# Altium footprint library WR-TBL_Rising Cage Clamp_7.50mm.PcbLib: 17 footprints (part 1 of 2)
Each footprint in its own frame and in the unit in brackets; x right, y up, seen from the top. Pads: shape width x height; smd on the part's side, far side on the other; paste and mask are expansions set on the pad; w line width, h text height; cw(c..) or ccw(c..) is an arc to the next point about the centre after c.
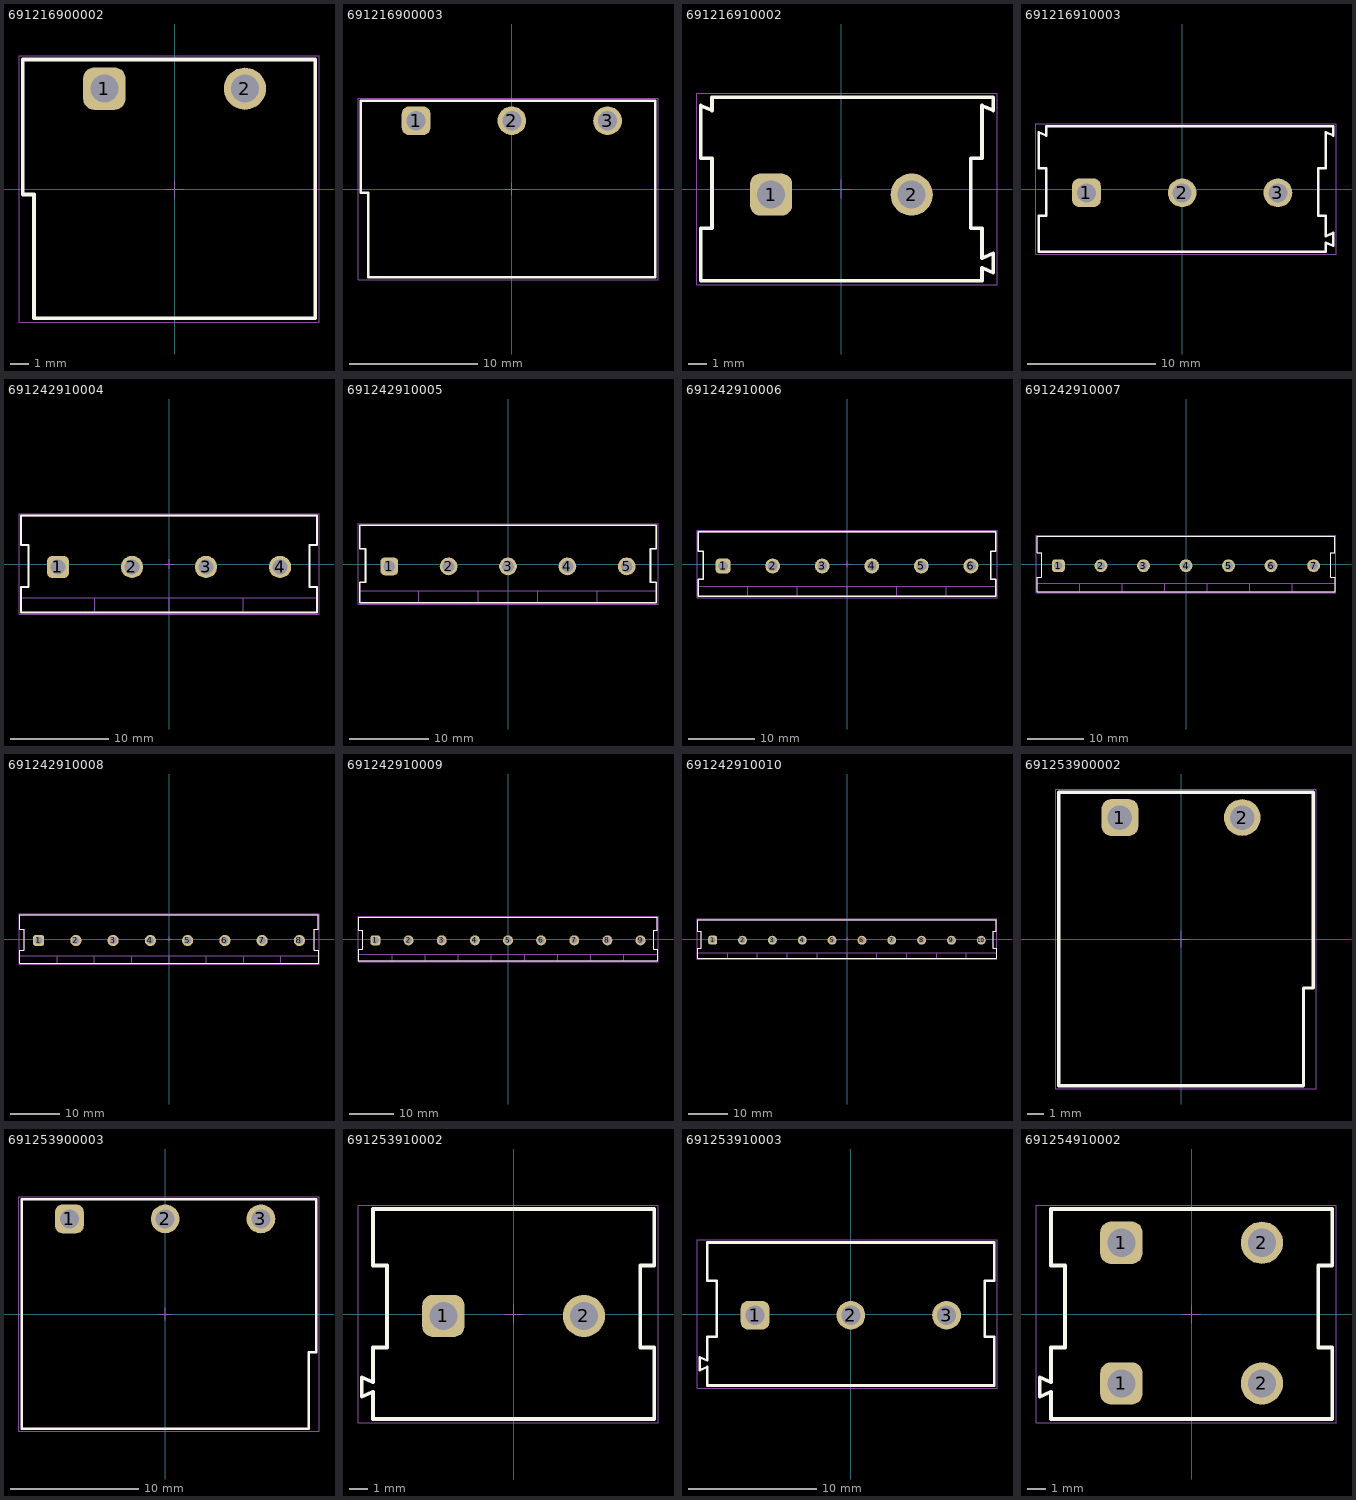
[diagram p0: the footprints below, top view; thin cyan lines are the x and y axes]

## 691216900002 [mm] "Vertical Cable Entry with Rising Cage Clamp, pitch 7.5mm, 02p"
height 9.8
pads (2):
  rrect50% 2.25x2.25 hole 1.5: 1(-3.75,5.35)
  round 2.25 hole 1.5: 2(3.75,5.35)
Top Overlay:
  lines w0.2: -8.1,-0.3 -7.5,-0.3 -7.5,-6.9 7.5,-6.9 7.5,6.9 -8.1,6.9 -8.1,-0.3
Top Designator:
  text ".Designator" at -7.498,-0.5 h1.5
Top Component Outline:
  lines w0.1: -8.1,-0.3 -8.1,6.9 7.5,6.9 7.5,-6.9 -7.5,-6.9 -7.5,-0.3 -8.1,-0.3
Top 3D Body:
  lines w0.1: -8.1,-0.3 -7.5,-0.3 -7.5,-6.9 7.5,-6.9 7.5,6.9 -8.1,6.9 -8.1,-0.3
Top Courtyard:
  lines w0.05: -8.3,-7.1 -8.3,7.1 7.7,7.1 7.7,-7.1 -8.3,-7.1
Top Component Center:
  lines w0.05: -0.5,0 0.5,0 ; 0,-0.5 0,0.5
3D body "691216900002.stp": height 9.9, standoff -3.4, extent -8.1,-6.9 7.5,6.9

## 691216900003 [mm] "Vertical Cable Entry with Rising Cage Clamp, pitch 7.5mm, 03p"
height 9.8
pads (3):
  rrect50% 2.25x2.25 hole 1.5: 1(-7.5,5.35)
  round 2.25 hole 1.5: 2(0,5.35) 3(7.5,5.35)
Top Overlay:
  lines w0.2: -11.85,-0.3 -11.25,-0.3 -11.25,-6.9 11.25,-6.9 11.25,6.9 -11.85,6.9 -11.85,-0.3
Top Designator:
  text ".Designator" at -7.498,-0.5 h1.5
Top Component Outline:
  lines w0.1: -11.85,-0.3 -11.85,6.9 11.25,6.9 11.25,-6.9 -11.25,-6.9 -11.25,-0.3 -11.85,-0.3
Top 3D Body:
  lines w0.1: -11.85,-0.3 -11.25,-0.3 -11.25,-6.9 11.25,-6.9 11.25,6.9 -11.85,6.9 -11.85,-0.3
Top Courtyard:
  lines w0.05: -12.05,-7.1 -12.05,7.1 11.45,7.1 11.45,-7.1 -12.05,-7.1
Top Component Center:
  lines w0.05: -0.5,0 0.5,0 ; 0,-0.5 0,0.5
3D body "691216900003.stp": height 9.9, standoff -3.4, extent -11.85,-6.9 11.25,6.9

## 691216910002 [mm] "Serie 2169 - 7.50 mm _ 2 pins"
height 13.8
pads (2):
  rrect50% 2.25x2.25 hole 1.5: 1(-3.75,-0.3)
  round 2.25 hole 1.5: 2(3.75,-0.3)
Top Overlay:
  lines w0.2: -7.5,-4.9 7.5,-4.9 7.5,-4.2 8.1,-4.46 8.1,-3.43 7.5,-3.69 7.5,-2.09 6.9,-2.09 6.9,1.64 7.5,1.64 7.5,4.45 8.1,4.19 8.1,4.9 -6.9,4.9 -6.9,4.19 -7.5,4.45 -7.5,1.64 -6.9,1.64 -6.9,-2.09 -7.5,-2.09 -7.5,-4.9
Top Designator:
  text ".Designator" at -7.498,-0.5 h1.5
Top Component Outline:
  lines w0.1: -7.5,-4.9 -7.5,-2.09 -6.9,-2.09 -6.9,1.64 -7.5,1.64 -7.5,4.45 -6.9,4.19 -6.9,4.9 8.1,4.9 8.1,4.19 7.5,4.45 7.5,1.64 6.9,1.64 6.9,-2.09 7.5,-2.09 7.5,-3.69 8.1,-3.43 8.1,-4.46 7.5,-4.2 7.5,-4.9 -7.5,-4.9
Top 3D Body:
  lines w0.1: -7.5,-4.9 7.5,-4.9 7.5,-4.2 8.1,-4.46 8.1,-3.43 7.5,-3.69 7.5,-2.09 6.9,-2.09 6.9,1.64 7.5,1.64 7.5,4.45 8.1,4.19 8.1,4.9 -6.9,4.9 -6.9,4.19 -7.5,4.45 -7.5,1.64 -6.9,1.64 -6.9,-2.09 -7.5,-2.09 -7.5,-4.9
Top Courtyard:
  lines w0.05: -7.7,-5.1 -7.7,5.1 8.3,5.1 8.3,-5.1 -7.7,-5.1
Top Component Center:
  lines w0.05: -0.5,0 0.5,0 ; 0,-0.5 0,0.5
3D body "691216910002.stp": height 13.85, standoff -3.45, extent -7.5,-4.9 8.1,4.9

## 691216910003 [mm] "Serie 2169 - 7.50 mm _ 3 pins"
height 13.8
pads (3):
  rrect50% 2.25x2.25 hole 1.5: 1(-7.5,-0.3)
  round 2.25 hole 1.5: 2(0,-0.3) 3(7.5,-0.3)
Top Overlay:
  lines w0.2: -11.25,-4.9 -11.25,-2.09 -10.65,-2.09 -10.65,1.64 -11.25,1.64 -11.25,4.45 -10.65,4.19 -10.65,4.9 11.85,4.9 11.85,4.19 11.25,4.45 11.25,1.64 10.65,1.64 10.65,-2.09 11.25,-2.09 11.25,-3.69 11.85,-3.43 11.85,-4.46 11.25,-4.2 11.25,-4.9 -11.25,-4.9
Top Designator:
  text ".Designator" at -7.498,-0.5 h1.5
Top Component Outline:
  lines w0.1: -11.25,-4.9 11.25,-4.9 11.25,-4.2 11.85,-4.46 11.85,-3.43 11.25,-3.69 11.25,-2.09 10.65,-2.09 10.65,1.64 11.25,1.64 11.25,4.45 11.85,4.19 11.85,4.9 -10.65,4.9 -10.65,4.19 -11.25,4.45 -11.25,1.64 -10.65,1.64 -10.65,-2.09 -11.25,-2.09 -11.25,-4.9
Top 3D Body:
  lines w0.1: -11.25,-4.9 -11.25,-2.09 -10.65,-2.09 -10.65,1.64 -11.25,1.64 -11.25,4.45 -10.65,4.19 -10.65,4.9 11.85,4.9 11.85,4.19 11.25,4.45 11.25,1.64 10.65,1.64 10.65,-2.09 11.25,-2.09 11.25,-3.69 11.85,-3.43 11.85,-4.46 11.25,-4.2 11.25,-4.9 -11.25,-4.9
Top Courtyard:
  lines w0.05: -11.45,-5.1 12.05,-5.1 12.05,5.1 -11.45,5.1 -11.45,-5.1
Top Component Center:
  lines w0.05: -0.5,0 0.5,0 ; 0,-0.5 0,0.5
3D body "691216910003.stp": height 13.85, standoff -3.45, extent -11.25,-4.9 11.85,4.9

## 691242910004 [mm] "Serie 2429 -7.50 mm_4 pins"
height 13.8
pads (4):
  rrect50% 2.25x2.25 hole 1.5: 1(-11.25,-0.3)
  round 2.25 hole 1.5: 2(-3.75,-0.3) 3(3.75,-0.3) 4(11.25,-0.3)
Top Overlay:
  lines w0.2: -15,-4.9 15,-4.9 15,-2.31 14.25,-2.31 14.25,1.94 15,1.94 15,4.9 -15,4.9 -15,1.94 -14.25,1.94 -14.25,-2.31 -15,-2.31 -15,-4.9
Top Designator:
  text ".Designator" at -7.498,-0.5 h1.5
Top Component Outline:
  lines w0.1: -15,-3.4 15,-3.4 ; -7.5,-4.9 -7.5,-3.4 ; 0,-4.9 0,-3.4 ; 7.5,-4.9 7.5,-3.4 ; -15,-4.9 -15,-2.31 -14.25,-2.31 -14.25,1.94 -15,1.94 -15,4.9 15,4.9 15,1.94 14.25,1.94 14.25,-2.31 15,-2.31 15,-4.9 -15,-4.9
Top 3D Body:
  lines w0.1: -15,-3.4 15,-3.4 ; -7.5,-4.9 -7.5,-3.4 ; 0,-4.9 0,-3.4 ; 7.5,-4.9 7.5,-3.4 ; -15,-4.9 15,-4.9 15,-2.31 14.25,-2.31 14.25,1.94 15,1.94 15,4.9 -15,4.9 -15,1.94 -14.25,1.94 -14.25,-2.31 -15,-2.31 -15,-4.9
Top Courtyard:
  lines w0.05: -15.2,-5.1 -15.2,5.1 15.2,5.1 15.2,-5.1 -15.2,-5.1
Top Component Center:
  lines w0.05: -0.5,0 0.5,0 ; 0,-0.5 0,0.5
3D body "691242910004.stp": height 13.9, standoff -3.4, extent -15,-4.9 15,4.9

## 691242910005 [mm] "Serie 2429 -7.50 mm_5 pins"
height 13.8
pads (5):
  rrect50% 2.25x2.25 hole 1.5: 1(-15,-0.3)
  round 2.25 hole 1.5: 2(-7.5,-0.3) 3(0,-0.3) 4(7.5,-0.3) 5(15,-0.3)
Top Overlay:
  lines w0.2: -18.75,-4.9 18.75,-4.9 18.75,-2.31 18,-2.31 18,1.94 18.75,1.94 18.75,4.9 -18.75,4.9 -18.75,1.94 -18,1.94 -18,-2.31 -18.75,-2.31 -18.75,-4.9
Top Designator:
  text ".Designator" at -7.498,-0.5 h1.5
Top Component Outline:
  lines w0.1: -18.75,-3.4 18.75,-3.4 ; -11.25,-4.9 -11.25,-3.4 ; -3.75,-4.9 -3.75,-3.4 ; 3.75,-4.9 3.75,-3.4 ; 11.25,-4.9 11.25,-3.4 ; -18.75,-4.9 -18.75,-2.31 -18,-2.31 -18,1.94 -18.75,1.94 -18.75,4.9 18.75,4.9 18.75,1.94 18,1.94 18,-2.31 18.75,-2.31 18.75,-4.9 -18.75,-4.9
Top 3D Body:
  lines w0.1: -18.75,-3.4 18.75,-3.4 ; -11.25,-4.9 -11.25,-3.4 ; -3.75,-4.9 -3.75,-3.4 ; 3.75,-4.9 3.75,-3.4 ; 11.25,-4.9 11.25,-3.4 ; -18.75,-4.9 18.75,-4.9 18.75,-2.31 18,-2.31 18,1.94 18.75,1.94 18.75,4.9 -18.75,4.9 -18.75,1.94 -18,1.94 -18,-2.31 -18.75,-2.31 -18.75,-4.9
Top Courtyard:
  lines w0.05: -18.95,-5.1 -18.95,5.1 18.95,5.1 18.95,-5.1 -18.95,-5.1
Top Component Center:
  lines w0.05: -0.5,0 0.5,0 ; 0,-0.5 0,0.5
3D body "691242910005.stp": height 13.9, standoff -3.4, extent -18.75,-4.9 18.75,4.9

## 691242910006 [mm] "Serie 2429 -7.50 mm_6 pins"
height 13.8
pads (6):
  rrect50% 2.25x2.25 hole 1.5: 1(-18.75,-0.3)
  round 2.25 hole 1.5: 2(-11.25,-0.3) 3(-3.75,-0.3) 4(3.75,-0.3) 5(11.25,-0.3) 6(18.75,-0.3)
Top Overlay:
  lines w0.2: -22.5,-4.9 22.5,-4.9 22.5,-2.31 21.75,-2.31 21.75,1.94 22.5,1.94 22.5,4.9 -22.5,4.9 -22.5,1.94 -21.75,1.94 -21.75,-2.31 -22.5,-2.31 -22.5,-4.9
Top Designator:
  text ".Designator" at -7.498,-0.5 h1.5
Top Component Outline:
  lines w0.1: -22.5,-3.4 22.5,-3.4 ; -15,-4.9 -15,-3.4 ; -7.5,-4.9 -7.5,-3.4 ; 0,-4.9 0,-3.4 ; 7.5,-4.9 7.5,-3.4 ; 15,-4.9 15,-3.4 ; -22.5,-4.9 -22.5,-2.31 -21.75,-2.31 -21.75,1.94 -22.5,1.94 -22.5,4.9 22.5,4.9 22.5,1.94 21.75,1.94 21.75,-2.31 22.5,-2.31 22.5,-4.9 -22.5,-4.9
Top 3D Body:
  lines w0.1: -22.5,-3.4 22.5,-3.4 ; -15,-4.9 -15,-3.4 ; -7.5,-4.9 -7.5,-3.4 ; 0,-4.9 0,-3.4 ; 7.5,-4.9 7.5,-3.4 ; 15,-4.9 15,-3.4 ; -22.5,-4.9 22.5,-4.9 22.5,-2.31 21.75,-2.31 21.75,1.94 22.5,1.94 22.5,4.9 -22.5,4.9 -22.5,1.94 -21.75,1.94 -21.75,-2.31 -22.5,-2.31 -22.5,-4.9
Top Courtyard:
  lines w0.05: -22.7,-5.1 -22.7,5.1 22.7,5.1 22.7,-5.1 -22.7,-5.1
Top Component Center:
  lines w0.05: -0.5,0 0.5,0 ; 0,-0.5 0,0.5
3D body "691242910006.stp": height 13.9, standoff -3.4, extent -22.5,-4.9 22.5,4.9

## 691242910007 [mm] "Serie 2429 -7.50 mm_7 pins"
height 13.8
pads (7):
  rrect50% 2.25x2.25 hole 1.5: 1(-22.5,-0.3)
  round 2.25 hole 1.5: 2(-15,-0.3) 3(-7.5,-0.3) 4(0,-0.3) 5(7.5,-0.3) 6(15,-0.3) 7(22.5,-0.3)
Top Overlay:
  lines w0.2: -26.25,-4.9 -26.25,-2.31 -25.5,-2.31 -25.5,1.94 -26.25,1.94 -26.25,4.9 26.25,4.9 26.25,1.94 25.5,1.94 25.5,-2.31 26.25,-2.31 26.25,-4.9 -26.25,-4.9
Top Designator:
  text ".Designator" at -7.498,-0.5 h1.5
Top Component Outline:
  lines w0.1: -26.25,-3.4 26.25,-3.4 ; -18.75,-4.9 -18.75,-3.4 ; -11.25,-4.9 -11.25,-3.4 ; -3.75,-4.9 -3.75,-3.4 ; 3.75,-4.9 3.75,-3.4 ; 11.25,-4.9 11.25,-3.4 ; 18.75,-4.9 18.75,-3.4 ; -26.25,-4.9 26.25,-4.9 26.25,-2.31 25.5,-2.31 25.5,1.94 26.25,1.94 26.25,4.9 -26.25,4.9 -26.25,1.94 -25.5,1.94 -25.5,-2.31 -26.25,-2.31 -26.25,-4.9
Top 3D Body:
  lines w0.1: -26.25,-3.4 26.25,-3.4 ; -18.75,-4.9 -18.75,-3.4 ; -11.25,-4.9 -11.25,-3.4 ; -3.75,-4.9 -3.75,-3.4 ; 3.75,-4.9 3.75,-3.4 ; 11.25,-4.9 11.25,-3.4 ; 18.75,-4.9 18.75,-3.4 ; -26.25,-4.9 -26.25,-2.31 -25.5,-2.31 -25.5,1.94 -26.25,1.94 -26.25,4.9 26.25,4.9 26.25,1.94 25.5,1.94 25.5,-2.31 26.25,-2.31 26.25,-4.9 -26.25,-4.9
Top Courtyard:
  lines w0.05: -26.45,-5.1 26.45,-5.1 26.45,5.1 -26.45,5.1 -26.45,-5.1
Top Component Center:
  lines w0.05: -0.5,0 0.5,0 ; 0,-0.5 0,0.5
3D body "691242910007.stp": height 13.9, standoff -3.4, extent -26.25,-4.9 26.25,4.9

## 691242910008 [mm] "Serie 2429 -7.50 mm_8 pins"
height 13.8
pads (8):
  rrect50% 2.25x2.25 hole 1.5: 1(-26.25,-0.3)
  round 2.25 hole 1.5: 2(-18.75,-0.3) 3(-11.25,-0.3) 4(-3.75,-0.3) 5(3.75,-0.3) 6(11.25,-0.3) 7(18.75,-0.3) 8(26.25,-0.3)
Top Overlay:
  lines w0.2: -30,-4.9 30,-4.9 30,-2.31 29.25,-2.31 29.25,1.94 30,1.94 30,4.9 -30,4.9 -30,1.94 -29.25,1.94 -29.25,-2.31 -30,-2.31 -30,-4.9
Top Designator:
  text ".Designator" at -7.498,-0.5 h1.5
Top Component Outline:
  lines w0.1: -30,-3.4 30,-3.4 ; -22.5,-4.9 -22.5,-3.4 ; -15,-4.9 -15,-3.4 ; -7.5,-4.9 -7.5,-3.4 ; 0,-4.9 0,-3.4 ; 7.5,-4.9 7.5,-3.4 ; 15,-4.9 15,-3.4 ; 22.5,-4.9 22.5,-3.4 ; -30,-4.9 -30,-2.31 -29.25,-2.31 -29.25,1.94 -30,1.94 -30,4.9 30,4.9 30,1.94 29.25,1.94 29.25,-2.31 30,-2.31 30,-4.9 -30,-4.9
Top 3D Body:
  lines w0.1: -30,-3.4 30,-3.4 ; -22.5,-4.9 -22.5,-3.4 ; -15,-4.9 -15,-3.4 ; -7.5,-4.9 -7.5,-3.4 ; 0,-4.9 0,-3.4 ; 7.5,-4.9 7.5,-3.4 ; 15,-4.9 15,-3.4 ; 22.5,-4.9 22.5,-3.4 ; -30,-4.9 30,-4.9 30,-2.31 29.25,-2.31 29.25,1.94 30,1.94 30,4.9 -30,4.9 -30,1.94 -29.25,1.94 -29.25,-2.31 -30,-2.31 -30,-4.9
Top Courtyard:
  lines w0.05: -30.2,-5.1 -30.2,5.1 30.2,5.1 30.2,-5.1 -30.2,-5.1
Top Component Center:
  lines w0.05: -0.5,0 0.5,0 ; 0,-0.5 0,0.5
3D body "691242910008.stp": height 13.9, standoff -3.4, extent -30,-4.9 30,4.9

## 691242910009 [mm] "Serie 2429 -7.50 mm_9 pins"
height 13.8
pads (9):
  rrect50% 2.25x2.25 hole 1.5: 1(-30,-0.3)
  round 2.25 hole 1.5: 2(-22.5,-0.3) 3(-15,-0.3) 4(-7.5,-0.3) 5(0,-0.3) 6(7.5,-0.3) 7(15,-0.3) 8(22.5,-0.3) 9(30,-0.3)
Top Overlay:
  lines w0.2: -33.75,-4.9 33.75,-4.9 33.75,-2.31 33,-2.31 33,1.94 33.75,1.94 33.75,4.9 -33.75,4.9 -33.75,1.94 -33,1.94 -33,-2.31 -33.75,-2.31 -33.75,-4.9
Top Designator:
  text ".Designator" at -7.498,-0.5 h1.5
Top Component Outline:
  lines w0.1: -33.75,-3.4 33.75,-3.4 ; -26.25,-4.9 -26.25,-3.4 ; -18.75,-4.9 -18.75,-3.4 ; -11.25,-4.9 -11.25,-3.4 ; -3.75,-4.9 -3.75,-3.4 ; 3.75,-4.9 3.75,-3.4 ; 11.25,-4.9 11.25,-3.4 ; 18.75,-4.9 18.75,-3.4 ; 26.25,-4.9 26.25,-3.4 ; -33.75,-4.9 -33.75,-2.31 -33,-2.31 -33,1.94 -33.75,1.94 -33.75,4.9 33.75,4.9 33.75,1.94 33,1.94 33,-2.31 33.75,-2.31 33.75,-4.9 -33.75,-4.9
Top 3D Body:
  lines w0.1: -33.75,-3.4 33.75,-3.4 ; -26.25,-4.9 -26.25,-3.4 ; -18.75,-4.9 -18.75,-3.4 ; -11.25,-4.9 -11.25,-3.4 ; -3.75,-4.9 -3.75,-3.4 ; 3.75,-4.9 3.75,-3.4 ; 11.25,-4.9 11.25,-3.4 ; 18.75,-4.9 18.75,-3.4 ; 26.25,-4.9 26.25,-3.4 ; -33.75,-4.9 33.75,-4.9 33.75,-2.31 33,-2.31 33,1.94 33.75,1.94 33.75,4.9 -33.75,4.9 -33.75,1.94 -33,1.94 -33,-2.31 -33.75,-2.31 -33.75,-4.9
Top Courtyard:
  lines w0.05: -33.95,-5.1 -33.95,5.1 33.95,5.1 33.95,-5.1 -33.95,-5.1
Top Component Center:
  lines w0.05: -0.5,0 0.5,0 ; 0,-0.5 0,0.5
3D body "691242910009.stp": height 13.9, standoff -3.4, extent -33.75,-4.9 33.75,4.9

## 691242910010 [mm] "Serie 2429 -7.50 mm_10 pins"
height 13.8
pads (10):
  rrect50% 2.25x2.25 hole 1.5: 1(-33.75,-0.3)
  round 2.25 hole 1.5: 2(-26.25,-0.3) 3(-18.75,-0.3) 4(-11.25,-0.3) 5(-3.75,-0.3) 6(3.75,-0.3) 7(11.25,-0.3) 8(18.75,-0.3) 9(26.25,-0.3) 10(33.75,-0.3)
Top Overlay:
  lines w0.2: -37.5,-4.9 -37.5,-2.31 -36.75,-2.31 -36.75,1.94 -37.5,1.94 -37.5,4.9 37.5,4.9 37.5,1.94 36.75,1.94 36.75,-2.31 37.5,-2.31 37.5,-4.9 -37.5,-4.9
Top Designator:
  text ".Designator" at -7.498,-0.5 h1.5
Top Component Outline:
  lines w0.1: -37.5,-3.4 37.5,-3.4 ; -30,-4.9 -30,-3.4 ; -22.5,-4.9 -22.5,-3.4 ; -15,-4.9 -15,-3.4 ; -7.5,-4.9 -7.5,-3.4 ; 0,-4.9 0,-3.4 ; 7.5,-4.9 7.5,-3.4 ; 15,-4.9 15,-3.4 ; 22.5,-4.9 22.5,-3.4 ; 30,-4.9 30,-3.4 ; -37.5,-4.9 37.5,-4.9 37.5,-2.31 36.75,-2.31 36.75,1.94 37.5,1.94 37.5,4.9 -37.5,4.9 -37.5,1.94 -36.75,1.94 -36.75,-2.31 -37.5,-2.31 -37.5,-4.9
Top 3D Body:
  lines w0.1: -37.5,-3.4 37.5,-3.4 ; -30,-4.9 -30,-3.4 ; -22.5,-4.9 -22.5,-3.4 ; -15,-4.9 -15,-3.4 ; -7.5,-4.9 -7.5,-3.4 ; 0,-4.9 0,-3.4 ; 7.5,-4.9 7.5,-3.4 ; 15,-4.9 15,-3.4 ; 22.5,-4.9 22.5,-3.4 ; 30,-4.9 30,-3.4 ; -37.5,-4.9 -37.5,-2.31 -36.75,-2.31 -36.75,1.94 -37.5,1.94 -37.5,4.9 37.5,4.9 37.5,1.94 36.75,1.94 36.75,-2.31 37.5,-2.31 37.5,-4.9 -37.5,-4.9
Top Courtyard:
  lines w0.05: -37.7,-5.1 37.7,-5.1 37.7,5.1 -37.7,5.1 -37.7,-5.1
Top Component Center:
  lines w0.05: -0.5,0 0.5,0 ; 0,-0.5 0,0.5
3D body "691242910010.stp": height 13.9, standoff -3.4, extent -37.5,-4.9 37.5,4.9

## 691253900002 [mm] "Serie 2539 - 7.50 mm _ 2 pins"
height 11.2
pads (2):
  rrect50% 2.25x2.25 hole 1.5: 1(-3.75,7.45)
  round 2.25 hole 1.5: 2(3.75,7.45)
Top Overlay:
  lines w0.2: -7.5,-9 7.5,-9 7.5,-3 8.1,-3 8.1,9 -7.5,9 -7.5,-9
Top Designator:
  text ".Designator" at -7.498,-0.5 h1.5
Top Component Outline:
  lines w0.1: -7.5,-9 -7.5,9 8.1,9 8.1,-3 7.5,-3 7.5,-9 -7.5,-9
Top 3D Body:
  lines w0.1: -7.5,-9 7.5,-9 7.5,-3 8.1,-3 8.1,9 -7.5,9 -7.5,-9
Top Courtyard:
  lines w0.05: -7.7,-9.2 8.3,-9.2 8.3,9.2 -7.7,9.2 -7.7,-9.2
Top Component Center:
  lines w0.05: -0.5,0 0.5,0 ; 0,-0.5 0,0.5
3D body "691253900002.stp": height 11.35, standoff -3.85, extent -7.5,-9 8.1,9

## 691253900003 [mm] "Serie 2539 - 7.50 mm _ 3 pins"
height 11.2
pads (3):
  rrect50% 2.25x2.25 hole 1.5: 1(-7.5,7.45)
  round 2.25 hole 1.5: 2(0,7.45) 3(7.5,7.45)
Top Overlay:
  lines w0.2: -11.25,-9 -11.25,9 11.85,9 11.85,-3 11.25,-3 11.25,-9 -11.25,-9
Top Designator:
  text ".Designator" at -7.498,-0.5 h1.5
Top Component Outline:
  lines w0.1: -11.25,-9 11.25,-9 11.25,-3 11.85,-3 11.85,9 -11.25,9 -11.25,-9
Top 3D Body:
  lines w0.1: -11.25,-9 -11.25,9 11.85,9 11.85,-3 11.25,-3 11.25,-9 -11.25,-9
Top Courtyard:
  lines w0.05: -11.45,-9.2 -11.45,9.2 12.05,9.2 12.05,-9.2 -11.45,-9.2
Top Component Center:
  lines w0.05: -0.5,0 0.5,0 ; 0,-0.5 0,0.5
3D body "691253900003.stp": height 11.35, standoff -3.85, extent -11.25,-9 11.85,9

## 691253910002 [mm] "Serie 2539 - 7.50 mm _ 2 pins"
height 18
pads (2):
  rrect50% 2.25x2.25 hole 1.5: 1(-3.75,-0.1)
  round 2.25 hole 1.5: 2(3.75,-0.1)
Top Overlay:
  lines w0.2: -8.1,-4.41 -8.1,-3.38 -7.5,-3.64 -7.5,-1.79 -6.75,-1.79 -6.75,2.59 -7.5,2.59 -7.5,5.6 7.5,5.6 7.5,2.59 6.75,2.59 6.75,-1.79 7.5,-1.79 7.5,-5.6 -7.5,-5.6 -7.5,-4.15 -8.1,-4.41
Top Designator:
  text ".Designator" at -7.498,-0.5 h1.5
Top Component Outline:
  lines w0.1: -8.1,-4.41 -7.5,-4.15 -7.5,-5.6 7.5,-5.6 7.5,-1.79 6.75,-1.79 6.75,2.59 7.5,2.59 7.5,5.6 -7.5,5.6 -7.5,2.59 -6.75,2.59 -6.75,-1.79 -7.5,-1.79 -7.5,-3.64 -8.1,-3.38 -8.1,-4.41
Top 3D Body:
  lines w0.1: -8.1,-4.41 -8.1,-3.38 -7.5,-3.64 -7.5,-1.79 -6.75,-1.79 -6.75,2.59 -7.5,2.59 -7.5,5.6 7.5,5.6 7.5,2.59 6.75,2.59 6.75,-1.79 7.5,-1.79 7.5,-5.6 -7.5,-5.6 -7.5,-4.15 -8.1,-4.41
Top Courtyard:
  lines w0.05: -8.3,-5.8 -8.3,5.8 7.7,5.8 7.7,-5.8 -8.3,-5.8
Top Component Center:
  lines w0.05: -0.5,0 0.5,0 ; 0,-0.5 0,0.5
3D body "691253910002.stp": height 18.1, standoff -3.9, extent -8.1,-5.6 7.5,5.6

## 691253910003 [mm] "Serie 2539 - 7.50 mm _ 3 pins"
height 18
pads (3):
  rrect50% 2.25x2.25 hole 1.5: 1(-7.5,-0.1)
  round 2.25 hole 1.5: 2(0,-0.1) 3(7.5,-0.1)
Top Overlay:
  lines w0.2: -11.85,-4.41 -11.25,-4.15 -11.25,-5.6 11.25,-5.6 11.25,-1.79 10.5,-1.79 10.5,2.59 11.25,2.59 11.25,5.6 -11.25,5.6 -11.25,2.59 -10.5,2.59 -10.5,-1.79 -11.25,-1.79 -11.25,-3.64 -11.85,-3.38 -11.85,-4.41
Top Designator:
  text ".Designator" at -7.498,-0.5 h1.5
Top Component Outline:
  lines w0.1: -11.85,-4.41 -11.85,-3.38 -11.25,-3.64 -11.25,-1.79 -10.5,-1.79 -10.5,2.59 -11.25,2.59 -11.25,5.6 11.25,5.6 11.25,2.59 10.5,2.59 10.5,-1.79 11.25,-1.79 11.25,-5.6 -11.25,-5.6 -11.25,-4.15 -11.85,-4.41
Top 3D Body:
  lines w0.1: -11.85,-4.41 -11.25,-4.15 -11.25,-5.6 11.25,-5.6 11.25,-1.79 10.5,-1.79 10.5,2.59 11.25,2.59 11.25,5.6 -11.25,5.6 -11.25,2.59 -10.5,2.59 -10.5,-1.79 -11.25,-1.79 -11.25,-3.64 -11.85,-3.38 -11.85,-4.41
Top Courtyard:
  lines w0.05: -12.05,-5.8 11.45,-5.8 11.45,5.8 -12.05,5.8 -12.05,-5.8
Top Component Center:
  lines w0.05: -0.5,0 0.5,0 ; 0,-0.5 0,0.5
3D body "691253910003.stp": height 18.1, standoff -3.9, extent -11.85,-5.6 11.25,5.6

## 691254910002 [mm] "Serie 2549-7.50mm Horizontal Cable Entry with Rising Cage Clamp, 2 pins"
height 18
pads (4):
  rrect50% 2.25x2.25 hole 1.5: 1(-3.75,-3.7) 1(-3.75,3.8)
  round 2.25 hole 1.5: 2(3.75,-3.7) 2(3.75,3.8)
Top Overlay:
  lines w0.2: -8.1,-4.41 -7.5,-4.15 -7.5,-5.6 7.5,-5.6 7.5,-1.79 6.75,-1.79 6.75,2.59 7.5,2.59 7.5,5.6 -7.5,5.6 -7.5,2.59 -6.75,2.59 -6.75,-1.79 -7.5,-1.79 -7.5,-3.64 -8.1,-3.38 -8.1,-4.41
Top Designator:
  text ".Designator" at -7.498,-0.5 h1.5
Top Component Outline:
  lines w0.1: -8.1,-4.41 -8.1,-3.38 -7.5,-3.64 -7.5,-1.79 -6.75,-1.79 -6.75,2.59 -7.5,2.59 -7.5,5.6 7.5,5.6 7.5,2.59 6.75,2.59 6.75,-1.79 7.5,-1.79 7.5,-5.6 -7.5,-5.6 -7.5,-4.15 -8.1,-4.41
Top 3D Body:
  lines w0.1: -8.1,-4.41 -7.5,-4.15 -7.5,-5.6 7.5,-5.6 7.5,-1.79 6.75,-1.79 6.75,2.59 7.5,2.59 7.5,5.6 -7.5,5.6 -7.5,2.59 -6.75,2.59 -6.75,-1.79 -7.5,-1.79 -7.5,-3.64 -8.1,-3.38 -8.1,-4.41
Top Courtyard:
  lines w0.05: -8.3,-5.8 7.7,-5.8 7.7,5.8 -8.3,5.8 -8.3,-5.8
Top Component Center:
  lines w0.05: -0.5,0 0.5,0 ; 0,-0.5 0,0.5
3D body "691254910002.stp": height 18.1, standoff -3.4, extent -8.1,-5.6 7.5,5.6